# Altium footprint library MitchSwitch_Bypass.PCBLIB: 270 footprints (part 17 of 17)
Each footprint in its own frame and in the unit in brackets; x right, y up, seen from the top. Pads: shape width x height; smd on the part's side, far side on the other; paste and mask are expansions set on the pad; w line width, h text height; cw(c..) or ccw(c..) is an arc to the next point about the centre after c.
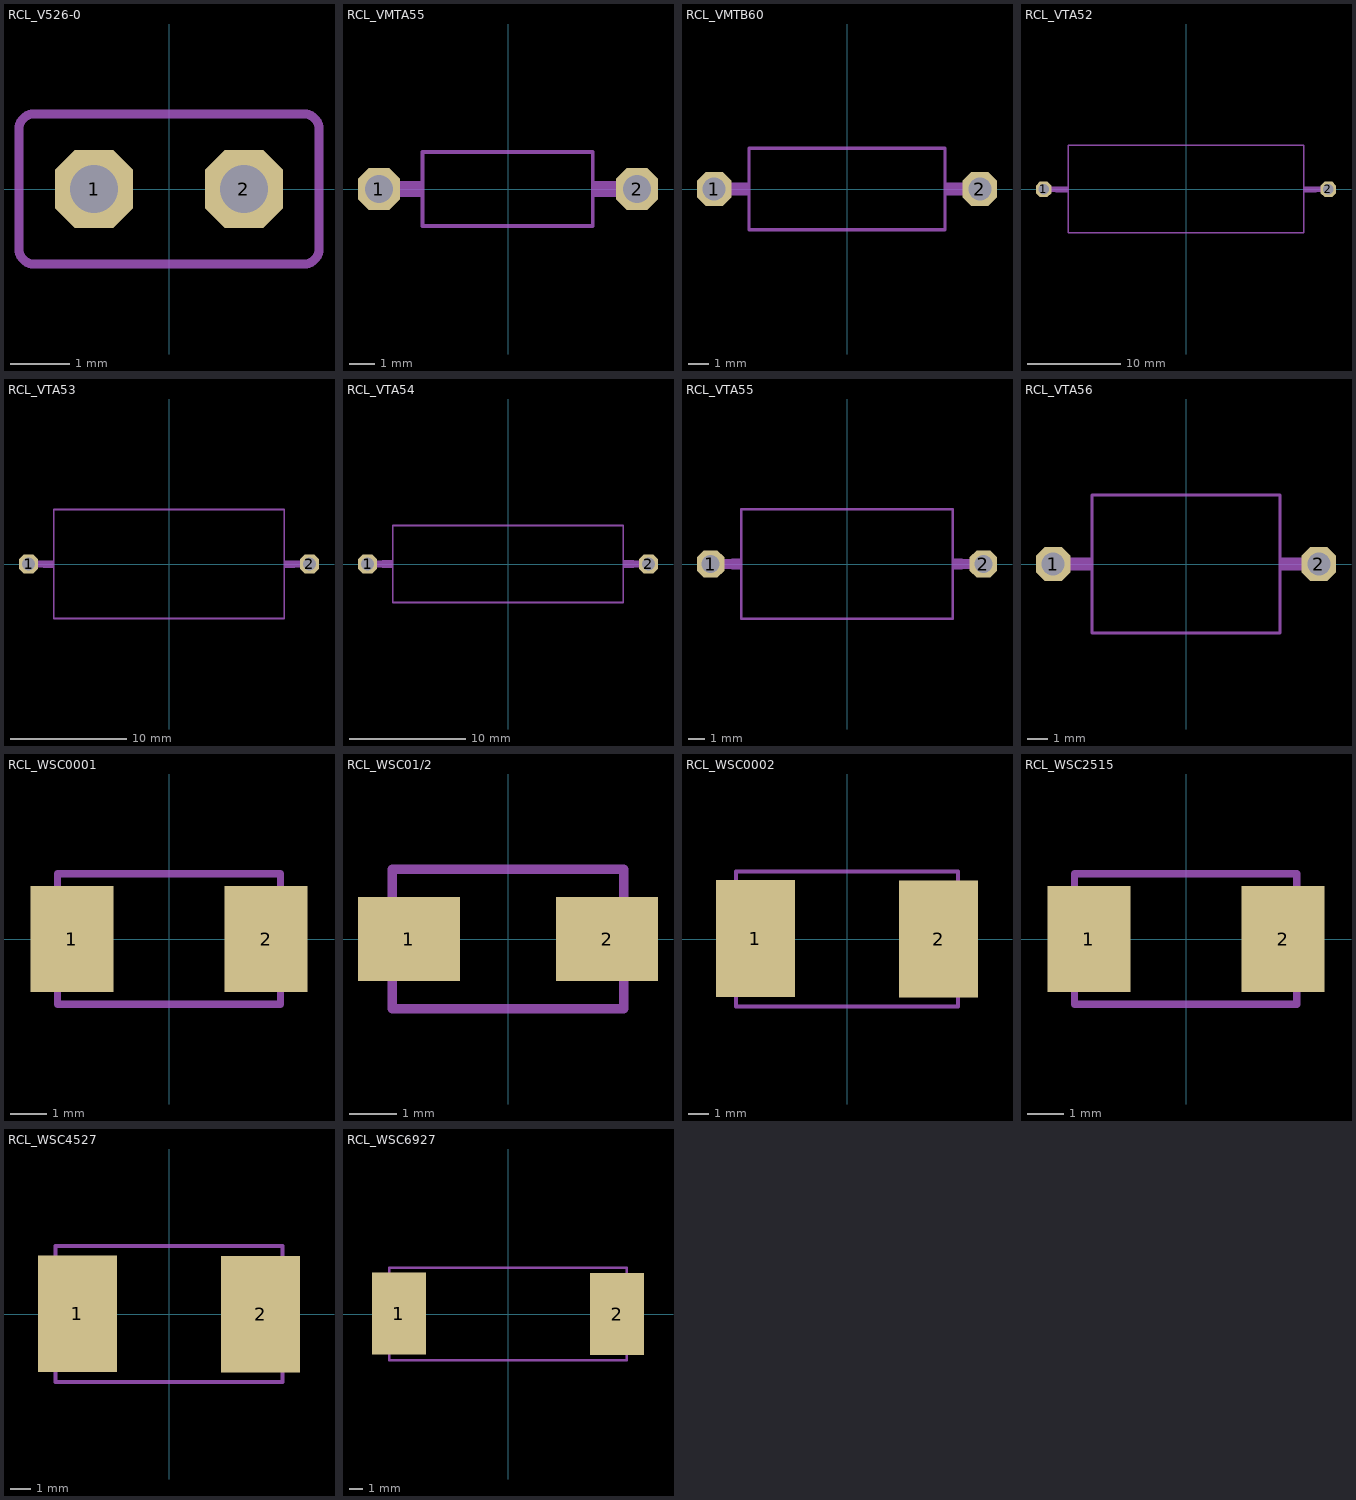
[diagram p16: the footprints below, top view; thin cyan lines are the x and y axes]

## RCL_V526-0 [mil]
pads (2):
  oct 52x52 / inner round 48.04 / far side oct 52x52 hole 32: 1(-50,0) 2(50,0)
Mechanical 7:
  lines w6: -100,-40 ccw(c-90,-40) -90,-50 90,-50 ccw(c90,-40) 100,-40 100,40 ccw(c90,40) 90,50 -90,50 ccw(c-90,40) -100,40 -100,-40

## RCL_VMTA55 [mil]
pads (2):
  oct 64.97x64.97 / inner round 60.02 / far side oct 64.97x64.97 hole 43.31: 1(-200,0) 2(200,0)
Mechanical 3:
  lines w24: -200,0 -167.72,0 ; 166.73,0 200,0
Mechanical 7:
  region: -167.72,-12 -167.72,12 -130.22,12 -130.22,-12
  region: 129.23,-12 129.23,12 166.73,12 166.73,-12
  lines w6: -132.38,-57.09 -132.38,57.09 131.4,57.09 131.4,-57.09 -132.38,-57.09

## RCL_VMTB60 [mil]
pads (2):
  oct 64.97x64.97 / inner round 60.02 / far side oct 64.97x64.97 hole 43.31: 1(-250,0) 2(250,0)
Mechanical 3:
  lines w24: -250,0 -219.88,0 ; 219.88,0 250,0
Mechanical 7:
  region: -219.88,-12 -219.88,12 -182.38,12 -182.38,-12
  region: 182.38,-12 182.38,12 219.88,12 219.88,-12
  lines w6: -184.55,-76.77 -184.55,76.77 184.55,76.77 184.55,-76.77 -184.55,-76.77

## RCL_VTA52 [mil]
pads (2):
  oct 64.97x64.97 / inner round 60.02 / far side oct 64.97x64.97 hole 43.31: 1(-600,0) 2(600,0)
Mechanical 3:
  lines w24: -600,0 -550,0 ; 550,0 600,0
Mechanical 7:
  region: -550,-12 -550,12 -494.78,12 -494.78,-12
  region: 494.78,-12 494.78,12 550,12 550,-12
  lines w6: -496.95,-183.07 -496.95,186.02 496.95,186.02 496.95,-183.07 -496.95,-183.07

## RCL_VTA53 [mil]
pads (2):
  oct 64.97x64.97 / inner round 60.02 / far side oct 64.97x64.97 hole 43.31: 1(-475,0) 2(475,0)
Mechanical 3:
  lines w24: -475,0 -425,0 ; 425,0 475,0
Mechanical 7:
  region: -425,-12 -425,12 -387.5,12 -387.5,-12
  region: 387.5,-12 387.5,12 425,12 425,-12
  lines w6: -389.67,-184.06 -389.67,185.04 389.67,185.04 389.67,-184.06 -389.67,-184.06

## RCL_VTA54 [mil]
pads (2):
  oct 64.97x64.97 / inner round 60.02 / far side oct 64.97x64.97 hole 43.31: 1(-475,0) 2(475,0)
Mechanical 3:
  lines w24: -475,0 -425,0 ; 425,0 475,0
Mechanical 7:
  region: -425,-12 -425,12 -387.5,12 -387.5,-12
  region: 387.5,-12 387.5,12 425,12 425,-12
  lines w6: -389.67,-129.92 -389.67,129.92 389.67,129.92 389.67,-129.92 -389.67,-129.92

## RCL_VTA55 [mil]
pads (2):
  oct 64.97x64.97 / inner round 60.02 / far side oct 64.97x64.97 hole 43.31: 1(-325,0) 2(325,0)
Mechanical 3:
  lines w24: -325,0 -275,0 ; 275,0 325,0
Mechanical 7:
  region: -275,-12 -275,12 -250,12 -250,-12
  region: 250,-12 250,12 275,12 275,-12
  lines w6: -252.17,-129.92 -252.17,129.92 252.17,129.92 252.17,-129.92 -252.17,-129.92

## RCL_VTA56 [mil]
pads (2):
  oct 64.97x64.97 / inner round 60.02 / far side oct 64.97x64.97 hole 43.31: 1(-250,0) 2(250,0)
Mechanical 3:
  lines w24: -250,0 -200,0 ; 200,0 250,0
Mechanical 7:
  region: -200,-12 -200,12 -175,12 -175,-12
  region: 175,-12 175,12 200,12 200,-12
  lines w6: -177.17,-129.92 -177.17,129.92 177.17,129.92 177.17,-129.92 -177.17,-129.92

## RCL_WSC0001 [mm]
pads (2):
  rect 2.29x2.92 smd: 1(-2.675,0) 2(2.675,0)
Mechanical 3:
  lines w0.203: -3.075,-1.8 -3.075,1.8 ; 3.075,-1.8 3.075,1.8
Mechanical 7:
  lines w0.203: -3.075,-1.606 -3.075,-1.8 3.075,-1.8 3.075,-1.606 ; -3.075,1.606 -3.075,1.8 3.075,1.8 3.075,1.606

## RCL_WSC01/2 [mm]
pads (2):
  rect 2.16x1.78 smd: 1(-2.1,0) 2(2.1,0)
Mechanical 3:
  lines w0.203: -2.45,-1.475 -2.45,1.475 ; 2.45,-1.475 2.45,1.475
Mechanical 7:
  lines w0.203: -2.45,-1.106 -2.45,-1.475 2.45,-1.475 2.45,-1.106 ; -2.45,1.106 -2.45,1.475 2.45,1.475 2.45,1.106

## RCL_WSC0002 [mil]
pads (2):
  rect 155.12x229.92 smd: 1(-180.12,0.98) 2(180.12,0)
Mechanical 3:
  lines w8: -218.5,-132.87 -218.5,132.87 ; 218.5,-132.87 218.5,132.87
Mechanical 7:
  lines w8: -218.5,-132.87 218.5,-132.87 ; -218.5,132.87 218.5,132.87

## RCL_WSC2515 [mm]
pads (2):
  rect 2.29x2.92 smd: 1(-2.675,0) 2(2.675,0)
Mechanical 3:
  lines w0.203: -3.075,-1.8 -3.075,1.8 ; 3.05,-1.8 3.05,1.8
Mechanical 7:
  lines w0.203: -3.075,-1.606 -3.075,-1.8 3.05,-1.8 3.05,-1.606 ; -3.075,1.606 -3.075,1.8 3.05,1.8 3.05,1.606

## RCL_WSC4527 [mil]
pads (2):
  rect 155.12x229.92 smd: 1(-180.12,0.98) 2(180.12,0)
Mechanical 3:
  lines w8: -223.43,-132.87 -223.43,133.86 ; 223.43,-132.87 223.43,133.86
Mechanical 7:
  lines w8: -223.43,-132.87 223.43,-132.87 ; -223.43,133.86 223.43,133.86

## RCL_WSC6927 [mm]
pads (2):
  rect 3.94x5.97 smd: 1(-7.95,0.025) 2(7.95,0)
Mechanical 3:
  lines w0.203: -8.65,-3.375 -8.65,3.375 ; 8.65,-3.375 8.65,3.375
Mechanical 7:
  lines w0.203: -8.65,-3.375 8.65,-3.375 ; -8.65,3.375 8.65,3.375